# Altium schematic symbol library CPU_NXP_68000.SchLib: 5 symbols
Pins are listed as number, name and electrical type; pins without a type are passive.

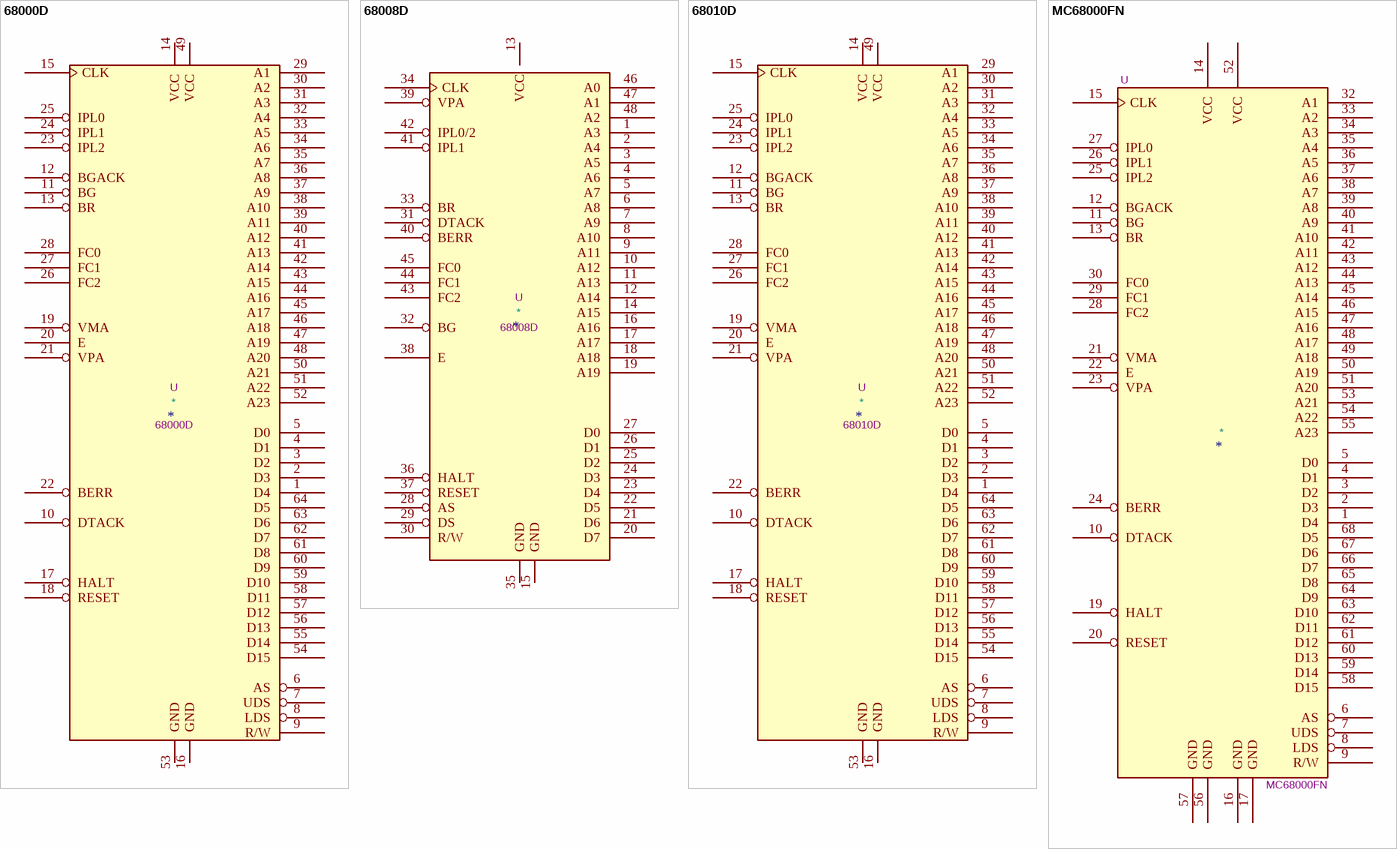
[diagram p0: symbols 68000D to MC68000FN]

## 68000D
designator *  value 68000D  Reference: U
ki_keywords: 68000 Microprocessor CPU; ki_description: 16/32-bit Microprocessor; Datasheet: https://www.nxp.com/docs/en/reference-manual/MC68000UM.pdf
pins: 1 D4, 2 D3, 3 D2, 4 D1, 5 D0, 6 AS, 7 UDS, 8 LDS, 9 R/W, 10 DTACK, 11 BG, 12 BGACK, 13 BR, 14 VCC, 15 CLK, 16 GND, 17 HALT, 18 RESET, 19 VMA, 20 E, 21 VPA, 22 BERR, 23 IPL2, 24 IPL1, 25 IPL0, 26 FC2, 27 FC1, 28 FC0, 29 A1, 30 A2, 31 A3, 32 A4, 33 A5, 34 A6, 35 A7, 36 A8, 37 A9, 38 A10, 39 A11, 40 A12, 41 A13, 42 A14, 43 A15, 44 A16, 45 A17, 46 A18, 47 A19, 48 A20, 49 VCC, 50 A21, 51 A22, 52 A23, 53 GND, 54 D15, 55 D14, 56 D13, 57 D12, 58 D11, 59 D10, 60 D9, 61 D8, 62 D7, 63 D6, 64 D5

## 68008D
designator *  value 68008D  Reference: U
ki_keywords: 68000 Microprocessor CPU; ki_description: 16/32-bit Microprocessor, 8-bit databus; Datasheet: https://www.nxp.com/docs/en/reference-manual/MC68000UM.pdf
pins: 1 A3, 2 A4, 3 A5, 4 A6, 5 A7, 6 A8, 7 A9, 8 A10, 9 A11, 10 A12, 11 A13, 12 A14, 13 VCC, 14 A15, 15 GND, 16 A16, 17 A17, 18 A18, 19 A19, 20 D7, 21 D6, 22 D5, 23 D4, 24 D3, 25 D2, 26 D1, 27 D0, 28 AS, 29 DS, 30 R/W, 31 DTACK, 32 BG, 33 BR, 34 CLK, 35 GND, 36 HALT, 37 RESET, 38 E, 39 VPA, 40 BERR, 41 IPL1, 42 IPL0/2, 43 FC2, 44 FC1, 45 FC0, 46 A0, 47 A1, 48 A2

## 68010D
designator *  value 68010D  Reference: U
ki_keywords: 68000 Microprocessor CPU; ki_description: 16/32-bit Microprocessor; Datasheet: https://www.nxp.com/docs/en/reference-manual/MC68000UM.pdf
pins: 1 D4, 2 D3, 3 D2, 4 D1, 5 D0, 6 AS, 7 UDS, 8 LDS, 9 R/W, 10 DTACK, 11 BG, 12 BGACK, 13 BR, 14 VCC, 15 CLK, 16 GND, 17 HALT, 18 RESET, 19 VMA, 20 E, 21 VPA, 22 BERR, 23 IPL2, 24 IPL1, 25 IPL0, 26 FC2, 27 FC1, 28 FC0, 29 A1, 30 A2, 31 A3, 32 A4, 33 A5, 34 A6, 35 A7, 36 A8, 37 A9, 38 A10, 39 A11, 40 A12, 41 A13, 42 A14, 43 A15, 44 A16, 45 A17, 46 A18, 47 A19, 48 A20, 49 VCC, 50 A21, 51 A22, 52 A23, 53 GND, 54 D15, 55 D14, 56 D13, 57 D12, 58 D11, 59 D10, 60 D9, 61 D8, 62 D7, 63 D6, 64 D5

## MC68000FN
designator *  value MC68000FN  Reference: U
ki_keywords: MPRO; ki_description: Microprocessor, 16-bit bus; ki_fp_filters: PLCC*; Footprint: Package_LCC:PLCC-68; Datasheet: https://www.nxp.com/docs/en/reference-manual/MC68000UM.pdf
pins: 1 D4, 2 D3, 3 D2, 4 D1, 5 D0, 6 AS, 7 UDS, 8 LDS, 9 R/W, 10 DTACK, 11 BG, 12 BGACK, 13 BR, 14 VCC, 15 CLK, 16 GND, 17 GND, 18 NC hidden, 19 HALT, 20 RESET, 21 VMA, 22 E, 23 VPA, 24 BERR, 25 IPL2, 26 IPL1, 27 IPL0, 28 FC2, 29 FC1, 30 FC0, 31 NC hidden, 32 A1, 33 A2, 34 A3, 35 A4, 36 A5, 37 A6, 38 A7, 39 A8, 40 A9, 41 A10, 42 A11, 43 A12, 44 A13, 45 A14, 46 A15, 47 A16, 48 A17, 49 A18, 50 A19, 51 A20, 52 VCC, 53 A21, 54 A22, 55 A23, 56 GND, 57 GND, 58 D15, 59 D14, 60 D13, 61 D12, 62 D11, 63 D10, 64 D9, 65 D8, 66 D7, 67 D6, 68 D5

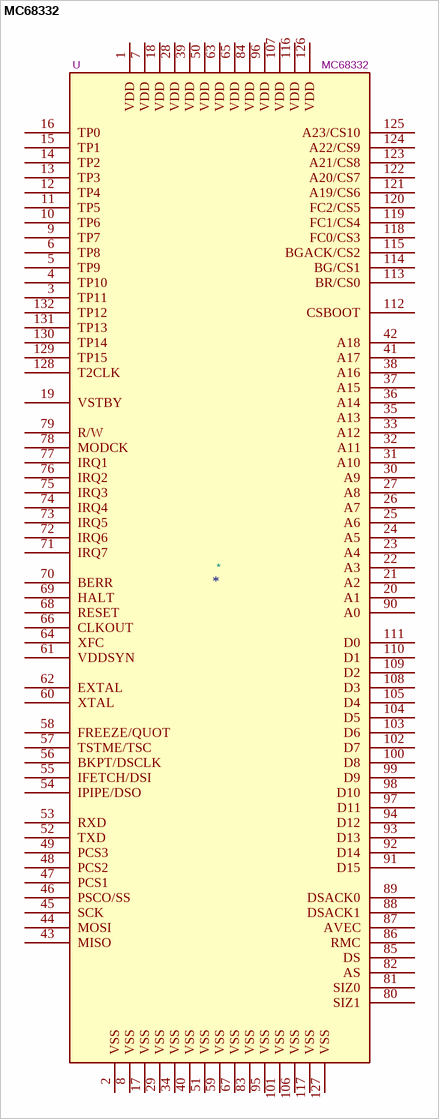
[diagram p1: symbol MC68332]

## MC68332
designator *  value MC68332  Reference: U
ki_keywords: MCU 32 bit; ki_description: MCU 32 bit, PQFP-132; ki_fp_filters: PQFP*24x24mm*P0.635mm*; Footprint: Package_QFP:PQFP-132_24x24mm_P0.635mm; Datasheet: http://pdf.datasheetcatalog.com/datasheet/motorola/SPAKMC332AVFC20.pdf
pins: 1 VDD, 2 VSS, 3 TP11, 4 TP10, 5 TP9, 6 TP8, 7 VDD, 8 VSS, 9 TP7, 10 TP6, 11 TP5, 12 TP4, 13 TP3, 14 TP2, 15 TP1, 16 TP0, 17 VSS, 18 VDD, 19 VSTBY, 20 A1, 21 A2, 22 A3, 23 A4, 24 A5, 25 A6, 26 A7, 27 A8, 28 VDD, 29 VSS, 30 A9, 31 A10, 32 A11, 33 A12, 34 VSS, 35 A13, 36 A14, 37 A15, 38 A16, 39 VDD, 40 VSS, 41 A17, 42 A18, 43 MISO, 44 MOSI, 45 SCK, 46 PSCO/SS, 47 PCS1, 48 PCS2, 49 PCS3, 50 VDD, 51 VSS, 52 TXD, 53 RXD, 54 IPIPE/DSO, 55 IFETCH/DSI, 56 BKPT/DSCLK, 57 TSTME/TSC, 58 FREEZE/QUOT, 59 VSS, 60 XTAL, 61 VDDSYN, 62 EXTAL, 63 VDD, 64 XFC, 65 VDD, 66 CLKOUT, 67 VSS, 68 RESET, 69 HALT, 70 BERR, 71 IRQ7, 72 IRQ6, 73 IRQ5, 74 IRQ4, 75 IRQ3, 76 IRQ2, 77 IRQ1, 78 MODCK, 79 R/W, 80 SIZ1, 81 SIZ0, 82 AS, 83 VSS, 84 VDD, 85 DS, 86 RMC, 87 AVEC, 88 DSACK1, 89 DSACK0, 90 A0, 91 D15, 92 D14, 93 D13, 94 D12, 95 VSS, 96 VDD, 97 D11, 98 D10, 99 D9, 100 D8, 101 VSS, 102 D7, 103 D6, 104 D5, 105 D4, 106 VSS, 107 VDD, 108 D3, 109 D2, 110 D1, 111 D0, 112 CSBOOT, 113 BR/CS0, 114 BG/CS1, 115 BGACK/CS2, 116 VDD, 117 VSS, 118 FC0/CS3, 119 FC1/CS4, 120 FC2/CS5, 121 A19/CS6, 122 A20/CS7, 123 A21/CS8, 124 A22/CS9, 125 A23/CS10, 126 VDD, 127 VSS, 128 T2CLK, 129 TP15, 130 TP14, 131 TP13, 132 TP12